# Altium footprint library WR-FSH.PcbLib: 15 footprints
Each footprint in its own frame and in the unit in brackets; x right, y up, seen from the top. Pads: shape width x height; smd on the part's side, far side on the other; paste and mask are expansions set on the pad; w line width, h text height; cw(c..) or ccw(c..) is an arc to the next point about the centre after c.
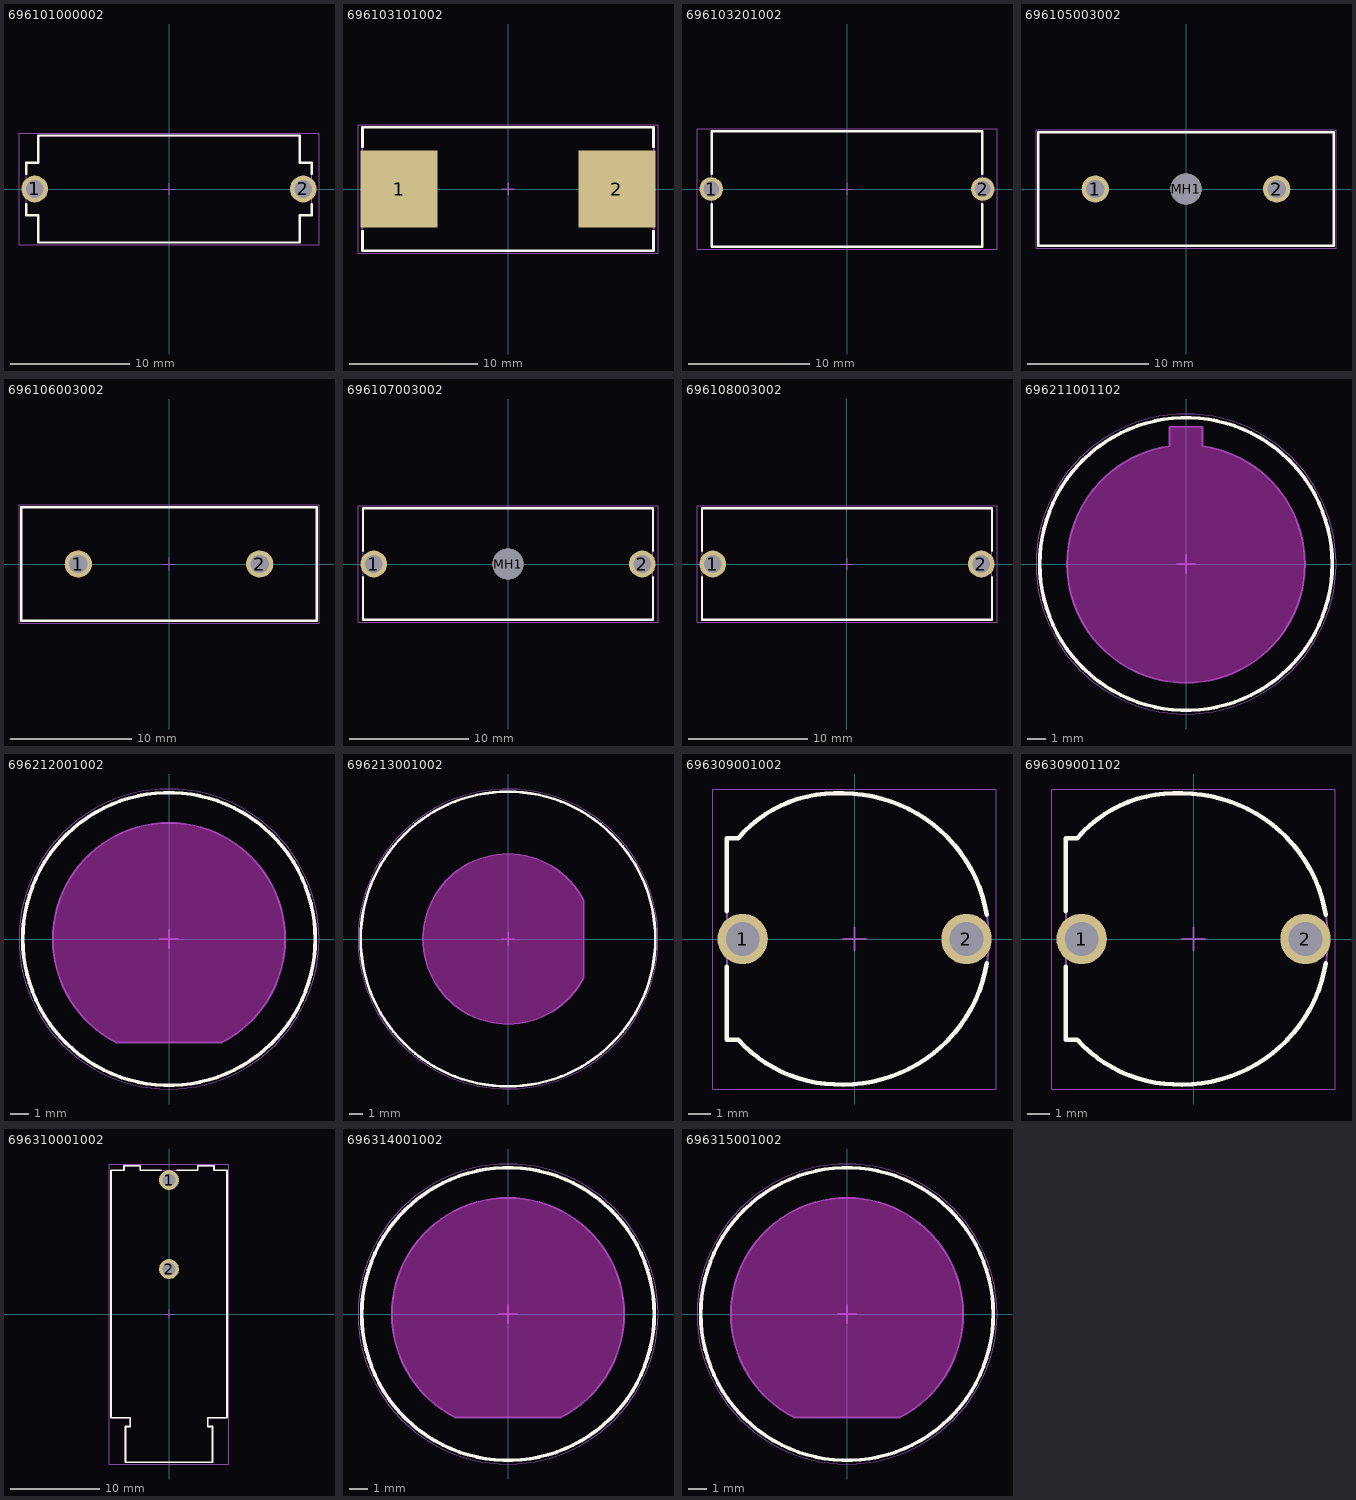
[diagram p0: the footprints below, top view; thin cyan lines are the x and y axes]

## 696101000002 [mm] "FUSEHOLDER BLOCKS - PCB - CLIP COVER - THT"
height 13.5
pads (2):
  round 2.25 hole 1.5: 1(-11.3,0) 2(11.3,0)
Top Overlay:
  lines w0.2: -12,-1.26 -12,-2.21 -11,-2.21 -11,-4.5 11,-4.5 11,-2.21 12,-2.21 12,-1.26 ; -12,1.26 -12,2.21 -11,2.21 -11,4.5 11,4.5 11,2.21 12,2.21 12,1.26
Top Assembly:
  lines w0.1: -12,-2.21 -11,-2.21 -11,-4.5 11,-4.5 11,-2.21 12,-2.21 12,2.21 11,2.21 11,4.5 -11,4.5 -11,2.21 -12,2.21 -12,-2.21
Top Designator:
  text ".Designator" at -3.647,-0.357 h1
Top 3D Body:
  lines w0.1: -12,-2.21 -12,2.21 -11,2.21 -11,4.5 11,4.5 11,2.21 12,2.21 12,-2.21 11,-2.21 11,-4.5 -11,-4.5 -11,-2.21 -12,-2.21
Top Courtyard:
  lines w0.05: -12.625,-4.7 12.625,-4.7 12.625,4.7 -12.625,4.7 -12.625,-4.7
Top Component Center:
  lines w0.1: -0.5,0 0.5,0 ; 0,-0.5 0,0.5
3D body "696101000002.stp": height 13.55, standoff -4.45, extent -12,-4.5 12,4.5

## 696103101002 [mm] "FUSEHOLDER BLOCKS - PCB - CLIP COVER - SMT"
height 13.1
pads (2):
  rect 6x6 smd: 1(-8.5,0) 2(8.5,0)
Top Overlay:
  lines w0.2: -11.35,-3.3 -11.35,-4.8 11.35,-4.8 11.35,-3.3 ; -11.35,3.3 -11.35,4.8 11.35,4.8 11.35,3.3
Top Assembly:
  lines w0.1: -11.35,-4.8 11.35,-4.8 11.35,4.8 -11.35,4.8 -11.35,-4.8
Top Designator:
  text ".Designator" at -3.647,-0.357 h1
Top 3D Body:
  lines w0.1: -11.35,-4.8 -11.35,4.8 11.35,4.8 11.35,-4.8 -11.35,-4.8
Top Courtyard:
  lines w0.05: -11.7,-5 11.7,-5 11.7,5 -11.7,5 -11.7,-5
Top Component Center:
  lines w0.1: -0.5,0 0.5,0 ; 0,-0.5 0,0.5
3D body "696103101002.stp": height 12.05, standoff 0.05, extent -11.35,-4.8 11.35,4.8

## 696103201002 [mm] "FUSEHOLDER BLOCKS - PCB - CLIP COVER - THR"
height 12.6
pads (2):
  round 1.95 hole 1.3: 1(-11.25,0) 2(11.25,0)
Top Overlay:
  lines w0.2: -11.2,-1.25 -11.2,-4.8 11.2,-4.8 11.2,-1.25 ; -11.2,1.25 -11.2,4.8 11.2,4.8 11.2,1.25
Top Assembly:
  lines w0.1: -11.2,-4.8 11.2,-4.8 11.2,4.8 -11.2,4.8 -11.2,-4.8
Top Designator:
  text ".Designator" at -3.647,-0.357 h1
Top 3D Body:
  lines w0.1: -11.2,-4.8 -11.2,4.8 11.2,4.8 11.2,-4.8 -11.2,-4.8
Top Courtyard:
  lines w0.05: -12.425,-5 12.425,-5 12.425,5 -12.425,5 -12.425,-5
Top Component Center:
  lines w0.1: -0.5,0 0.5,0 ; 0,-0.5 0,0.5
3D body "696103201002.stp": height 11.55, standoff -4.05, extent -12.05,-4.8 12.05,4.8

## 696105003002 [mm] "FUSEHOLDER BLOCKS - PCB - CLIP COVER - THT"
height 11.5
pads (3):
  round 2.25 hole 1.5: 1(-7.5,0) 2(7.5,0)
  round 2.6 hole 2.6 unplated: MH1(0,0)
Top Overlay:
  lines w0.2: -12.2,-4.7 12.2,-4.7 12.2,4.7 -12.2,4.7 -12.2,-4.7
Top Assembly:
  lines w0.1: -12.2,-4.7 -12.2,4.7 12.2,4.7 12.2,-4.7 -12.2,-4.7
Top Designator:
  text ".Designator" at -3.647,-0.357 h1
Top 3D Body:
  lines w0.1: -12.2,-4.7 12.2,-4.7 12.2,4.7 -12.2,4.7 -12.2,-4.7
Top Courtyard:
  lines w0.05: -12.4,-4.9 -12.4,4.9 12.4,4.9 12.4,-4.9 -12.4,-4.9
Top Component Center:
  lines w0.1: -0.5,0 0.5,0 ; 0,-0.5 0,0.5
3D body "696105003002 - PTF_75.stp": height 11.55, standoff -3.45, extent -12.2,-4.7 12.2,4.7

## 696106003002 [mm] "FUSEHOLDER BLOCKS - PCB - CLIP COVER - THT"
height 11.5
pads (2):
  round 2.25 hole 1.5: 1(-7.5,0) 2(7.5,0)
Top Overlay:
  lines w0.2: -12.2,-4.7 12.2,-4.7 12.2,4.7 -12.2,4.7 -12.2,-4.7
Top Assembly:
  lines w0.1: -12.2,-4.7 -12.2,4.7 12.2,4.7 12.2,-4.7 -12.2,-4.7
Top Designator:
  text ".Designator" at -3.647,-0.357 h1
Top 3D Body:
  lines w0.1: -12.2,-4.7 12.2,-4.7 12.2,4.7 -12.2,4.7 -12.2,-4.7
Top Courtyard:
  lines w0.05: -12.4,-4.9 12.4,-4.9 12.4,4.9 -12.4,4.9 -12.4,-4.9
Top Component Center:
  lines w0.1: -0.5,0 0.5,0 ; 0,-0.5 0,0.5
3D body "696106003002 - PTF_76.stp": height 11.55, standoff -3.45, extent -12.2,-4.7 12.2,4.7

## 696107003002 [mm] "FUSEHOLDER BLOCKS - PCB - CLIP COVER - THT"
height 11.5
pads (3):
  round 2.25 hole 1.5: 1(-11.3,0) 2(11.3,0)
  round 2.6 hole 2.6 unplated: MH1(0,0)
Top Overlay:
  lines w0.2: -12.2,-1.1 -12.2,-4.7 12.2,-4.7 12.2,-1.1 ; -12.2,1.1 -12.2,4.7 12.2,4.7 12.2,1.1
Top Assembly:
  lines w0.1: -12.2,-4.7 -12.2,4.7 12.2,4.7 12.2,-4.7 -12.2,-4.7
Top Designator:
  text ".Designator" at -3.647,-0.357 h1
Top 3D Body:
  lines w0.1: -12.2,-4.7 12.2,-4.7 12.2,4.7 -12.2,4.7 -12.2,-4.7
Top Courtyard:
  lines w0.05: -12.625,-4.9 12.625,-4.9 12.625,4.9 -12.625,4.9 -12.625,-4.9
Top Component Center:
  lines w0.1: -0.5,0 0.5,0 ; 0,-0.5 0,0.5
3D body "696107003002 - PTF_77.stp": height 11.55, standoff -3.45, extent -12.2,-4.7 12.2,4.7

## 696108003002 [mm] "FUSEHOLDER BLOCKS - PCB - CLIP COVER - THT"
height 11.5
pads (2):
  round 2.25 hole 1.5: 1(-11.3,0) 2(11.3,0)
Top Overlay:
  lines w0.2: -12.2,-1.1 -12.2,-4.7 12.2,-4.7 12.2,-1.1 ; -12.2,1.1 -12.2,4.7 12.2,4.7 12.2,1.1
Top Assembly:
  lines w0.1: -12.2,-4.7 12.2,-4.7 12.2,4.7 -12.2,4.7 -12.2,-4.7
Top Designator:
  text ".Designator" at -3.647,-0.357 h1
Top 3D Body:
  lines w0.1: -12.2,-4.7 -12.2,4.7 12.2,4.7 12.2,-4.7 -12.2,-4.7
Top Courtyard:
  lines w0.05: -12.625,-4.9 -12.625,4.9 12.625,4.9 12.625,-4.9 -12.625,-4.9
Top Component Center:
  lines w0.1: -0.5,0 0.5,0 ; 0,-0.5 0,0.5
3D body "696108003002 - PTF_78.stp": height 11.55, standoff -3.45, extent -12.2,-4.7 12.2,4.7

## 696211001102 [mm] "SHOCKSAFE FUSEHOLDERS - PANEL - SCREW’N LOCK COVER - THT"
height 34.2
Top Overlay:
  circle w0.2: c0,0 r8
Keep-Out Layer:
  board cut-out: -0.9,6.437 -1.272,6.385 -1.999,6.196 -2.7,5.925 -3.365,5.574 -3.985,5.149 -4.552,4.656 -5.058,4.1 -5.496,3.49 -5.862,2.833 -6.149,2.139 -6.355,1.416 -6.476,0.674 -6.51,-0.076 -6.458,-0.826 -6.32,-1.565 -6.098,-2.282 -5.794,-2.97 -5.413,-3.618 -4.96,-4.217 -4.441,-4.761 -3.863,-5.241 -3.233,-5.651 -2.561,-5.986 -1.854,-6.241 -1.122,-6.413 -0.376,-6.5 0.376,-6.5 1.122,-6.413 1.854,-6.241 2.561,-5.986 3.233,-5.651 3.863,-5.241 4.441,-4.761 4.96,-4.217 5.413,-3.618 5.794,-2.97 6.098,-2.282 6.32,-1.565 6.458,-0.826 6.51,-0.076 6.476,0.674 6.355,1.416 6.149,2.139 5.862,2.833 5.496,3.49 5.058,4.1 4.552,4.656 3.985,5.149 3.365,5.574 2.7,5.925 1.999,6.196 1.272,6.385 0.9,6.437 0.9,7.5 -0.9,7.5
Assembly Notes:
  lines w0.1: -0.9,6.437 ccw(c0,0) 0.9,6.437 0.9,7.5 -0.9,7.5 -0.9,6.437
  text "PCB Cutout Area" at -3,-0.5 h1.02
Top Assembly:
  circle w0.1: c0,0 r8
Top Designator:
  text ".Designator" at -3.647,-0.357 h1
Top 3D Body:
  circle w0.1: c0,0 r8
Top Courtyard:
  circle w0.05: c0,0 r8.2
Top Component Center:
  lines w0.1: -0.5,0 0.5,0 ; 0,-0.5 0,0.5
3D body "696211001102.stp": height 11.03, standoff -23.15, extent -8.25,-8 8,8

## 696212001002 [mm] "SHOCKSAFE FUSEHOLDERS - PANEL - SCREW’N LOCK COVER - THT"
height 37.5
Top Overlay:
  circle w0.2: c0,0 r8
Keep-Out Layer:
  board cut-out: -2.899,-5.65 -3.242,-5.474 -3.88,-5.041 -4.461,-4.535 -4.977,-3.962 -5.42,-3.331 -5.783,-2.651 -6.061,-1.932 -6.25,-1.185 -6.348,-0.42 -6.352,0.351 -6.263,1.116 -6.082,1.866 -5.812,2.588 -5.456,3.272 -5.02,3.908 -4.511,4.486 -3.935,4.999 -3.301,5.438 -2.619,5.797 -1.899,6.072 -1.151,6.257 -0.385,6.35 0.385,6.35 1.151,6.257 1.899,6.072 2.619,5.797 3.301,5.438 3.935,4.999 4.511,4.486 5.02,3.908 5.456,3.272 5.812,2.588 6.082,1.866 6.263,1.116 6.352,0.351 6.348,-0.42 6.25,-1.185 6.061,-1.932 5.783,-2.651 5.42,-3.331 4.977,-3.962 4.461,-4.535 3.88,-5.041 3.242,-5.474 2.899,-5.65
Assembly Notes:
  lines w0.1: -2.899,-5.65 cw(c0,0) 2.899,-5.65 -2.899,-5.65
  text "PCB Cutout Area" at -3.24,-0.29 h1.02
Top Assembly:
  circle w0.1: c0,0 r8
Top Designator:
  text ".Designator" at -3.647,-0.357 h1
Top 3D Body:
  circle w0.1: c0,0 r8
Top Courtyard:
  circle w0.05: c0,0 r8.2
Top Component Center:
  lines w0.1: -0.5,0 0.5,0 ; 0,-0.5 0,0.5
3D body "696212001002.stp": height 5.65, standoff -31.95, extent -8,-8.25 8,8

## 696213001002 [mm] "SHOCKSAFE FUSEHOLDERS - PANEL - SCREW’N LOCK COVER - THT"
height 37.5
Top Overlay:
  circle w0.2: c0,0 r11
Keep-Out Layer:
  board cut-out: 5.65,-2.899 5.474,-3.242 5.041,-3.88 4.535,-4.461 3.962,-4.977 3.331,-5.42 2.651,-5.783 1.932,-6.061 1.185,-6.25 0.42,-6.348 -0.351,-6.352 -1.116,-6.263 -1.866,-6.082 -2.588,-5.812 -3.272,-5.456 -3.907,-5.02 -4.486,-4.511 -4.999,-3.935 -5.438,-3.302 -5.797,-2.62 -6.072,-1.899 -6.257,-1.151 -6.35,-0.386 -6.35,0.385 -6.257,1.151 -6.072,1.899 -5.797,2.619 -5.438,3.301 -4.999,3.935 -4.486,4.511 -3.908,5.02 -3.272,5.456 -2.588,5.812 -1.866,6.082 -1.117,6.263 -0.351,6.352 0.42,6.348 1.185,6.25 1.932,6.061 2.651,5.783 3.331,5.42 3.962,4.977 4.535,4.462 5.041,3.88 5.474,3.242 5.65,2.899
Assembly Notes:
  lines w0.1: 5.65,2.899 ccw(c0,0) 5.65,-2.899 5.65,2.899
  text "PCB Cutout Area" at -3.6,-0.3 h1.02
Top Assembly:
  circle w0.1: c0,0 r11
Top Designator:
  text ".Designator" at -3.647,-0.357 h1
Top 3D Body:
  circle w0.1: c0,0 r11
Top Courtyard:
  circle w0.05: c0,0 r11.2
Top Component Center:
  lines w0.1: -0.5,0 0.5,0 ; 0,-0.5 0,0.5
3D body "696213001002.stp": height 6.73, standoff -30.87, extent -11,-11 11,11

## 696309001002 [mm] "SHOCKSAFE FUSEHOLDERS - PCB - TURN’N LOCK COVER - THT"
height 33.1
pads (2):
  round 2.25 hole 1.5: 1(-5,0) 2(5,0)
Top Overlay:
  lines w0.2: -5.7,-1.25 -5.7,-4.5 -5.2,-4.5 ccw(c-0.671,-0.379) -0.5,-6.5 ccw(c-0.5,0) 5.909,-1.085 ; -5.7,1.25 -5.7,4.5 -5.2,4.5 cw(c-0.834,0.761) -0.5,6.5 cw(c-0.5,0) 5.909,1.085
Top Assembly:
  lines w0.1: -5.7,-4.5 -5.7,4.5 -5.2,4.5 cw(c-0.834,0.761) -0.5,6.5 cw(c-0.5,0) -0.5,-6.5 cw(c-0.671,-0.379) -5.2,-4.5 -5.7,-4.5
Top Designator:
  text ".Designator" at -3.647,-0.357 h1
Top 3D Body:
  lines w0.1: -5.7,-4.5 -5.2,-4.5 ccw(c-0.671,-0.379) -0.5,-6.5 ccw(c-0.5,0) -0.5,6.5 ccw(c-0.834,0.761) -5.2,4.5 -5.7,4.5 -5.7,-4.5
Top Courtyard:
  lines w0.05: -6.325,-6.7 -6.325,6.7 6.325,6.7 6.325,-6.7 -6.325,-6.7
Top Component Center:
  lines w0.1: -0.5,0 0.5,0 ; 0,-0.5 0,0.5
3D body "696309001002.stp": height 33.37, standoff -4.93, extent -5.7,-6.5 6,6.5

## 696309001102 [mm] "SHOCKSAFE FUSEHOLDERS - PCB - TURN’N LOCK COVER - THT - GLOW WIRE PLASTIC - WR-FSH"
height 33.1
pads (2):
  round 2.25 hole 1.5: 1(-5,0) 2(5,0)
Top Overlay:
  lines w0.2: -5.7,-1.25 -5.7,-4.5 -5.2,-4.5 ccw(c-0.671,-0.379) -0.5,-6.5 ccw(c-0.5,0) 5.909,-1.085 ; -5.7,1.25 -5.7,4.5 -5.2,4.5 cw(c-0.834,0.761) -0.5,6.5 cw(c-0.5,0) 5.909,1.085
Top Assembly:
  lines w0.1: -5.7,-4.5 -5.7,4.5 -5.2,4.5 cw(c-0.834,0.761) -0.5,6.5 cw(c-0.5,0) -0.5,-6.5 cw(c-0.671,-0.379) -5.2,-4.5 -5.7,-4.5
Top Designator:
  text ".Designator" at -3.647,-0.357 h1
Top 3D Body:
  lines w0.1: -5.7,-4.5 -5.2,-4.5 ccw(c-0.671,-0.379) -0.5,-6.5 ccw(c-0.5,0) -0.5,6.5 ccw(c-0.834,0.761) -5.2,4.5 -5.7,4.5 -5.7,-4.5
Top Courtyard:
  lines w0.05: -6.325,-6.7 -6.325,6.7 6.325,6.7 6.325,-6.7 -6.325,-6.7
Top Component Center:
  lines w0.1: -0.5,0 0.5,0 ; 0,-0.5 0,0.5
3D body "696309001002.stp": height 33.37, standoff -4.93, extent -5.7,-6.5 6,6.5

## 696310001002 [mm] "SHOCKSAFE FUSEHOLDERS - PCB - TURN’N LOCK COVER - THT"
height 11.7
pads (2):
  round 2.25 hole 1.5: 1(0,15.05) 2(0,5.05)
Top Overlay:
  lines w0.2: -0.9,16.15 -3.23,16.15 -3.23,16.65 -5.07,16.65 -5.07,16.15 -6.5,16.15 -6.5,-11.65 -4.35,-11.65 -4.35,-12.65 -4.895,-12.65 -4.895,-16.65 4.895,-16.65 4.895,-12.65 4.35,-12.65 4.35,-11.65 6.5,-11.65 6.5,16.15 5.07,16.15 5.07,16.65 3.23,16.65 3.23,16.15 0.9,16.15
Top Assembly:
  lines w0.1: -6.5,-11.65 -6.5,16.15 -5.07,16.15 -5.07,16.65 -3.23,16.65 -3.23,16.15 3.23,16.15 3.23,16.65 5.07,16.65 5.07,16.15 6.5,16.15 6.5,-11.65 4.35,-11.65 4.35,-12.65 4.895,-12.65 4.895,-16.65 -4.895,-16.65 -4.895,-12.65 -4.35,-12.65 -4.35,-11.65 -6.5,-11.65
Top Designator:
  text ".Designator" at -3.647,-0.357 h1
Top 3D Body:
  lines w0.1: -6.5,-11.65 -4.35,-11.65 -4.35,-12.65 -4.895,-12.65 -4.895,-16.65 4.895,-16.65 4.895,-12.65 4.35,-12.65 4.35,-11.65 6.5,-11.65 6.5,16.15 5.07,16.15 5.07,16.65 3.23,16.65 3.23,16.15 -3.23,16.15 -3.23,16.65 -5.07,16.65 -5.07,16.15 -6.5,16.15 -6.5,-11.65
Top Courtyard:
  lines w0.05: -6.7,-16.85 -6.7,16.85 6.7,16.85 6.7,-16.85 -6.7,-16.85
Top Component Center:
  lines w0.1: -0.5,0 0.5,0 ; 0,-0.5 0,0.5
3D body "696310001002.stp": height 11.81, standoff -4.89, extent -6.5,-16.65 6.5,16.65

## 696314001002 [mm] "SHOCKSAFE FUSEHOLDERS - PANEL - TURN’N LOCK COVER - THT"
height 36.5
Top Overlay:
  circle w0.2: c0,0 r8
Keep-Out Layer:
  board cut-out: -2.899,-5.65 -3.242,-5.474 -3.88,-5.042 -4.461,-4.535 -4.977,-3.962 -5.42,-3.331 -5.783,-2.651 -6.061,-1.932 -6.25,-1.185 -6.348,-0.42 -6.352,0.351 -6.263,1.116 -6.082,1.866 -5.812,2.588 -5.456,3.272 -5.02,3.907 -4.511,4.486 -3.935,4.999 -3.302,5.438 -2.62,5.797 -1.899,6.072 -1.151,6.257 -0.386,6.35 0.385,6.35 1.151,6.257 1.899,6.072 2.619,5.797 3.301,5.438 3.935,4.999 4.511,4.486 5.02,3.908 5.456,3.272 5.812,2.588 6.082,1.866 6.263,1.116 6.352,0.351 6.348,-0.42 6.25,-1.185 6.061,-1.932 5.783,-2.651 5.42,-3.331 4.977,-3.962 4.461,-4.535 3.88,-5.041 3.242,-5.474 2.899,-5.65
Assembly Notes:
  lines w0.1: -2.899,-5.65 cw(c0,0) 2.899,-5.65 -2.899,-5.65
  text "PCB Cutout Area" at -3.3,-0.3 h1.02
Top Assembly:
  circle w0.1: c0,0 r8
Top Designator:
  text ".Designator" at -3.647,-0.357 h1
Top 3D Body:
  circle w0.1: c0,0 r8
Top Courtyard:
  circle w0.05: c0,0 r8.2
Top Component Center:
  lines w0.1: -0.5,0 0.5,0 ; 0,-0.5 0,0.5
3D body "696314001002.stp": height 6.3, standoff -30.4, extent -8.25,-8 8,8

## 696315001002 [mm] "SHOCKSAFE FUSEHOLDERS - PANEL - TURN’N LOCK COVER - THT"
height 46.2
Top Overlay:
  circle w0.2: c0,0 r8
Keep-Out Layer:
  board cut-out: -2.899,-5.65 -3.242,-5.474 -3.88,-5.041 -4.462,-4.535 -4.977,-3.962 -5.42,-3.331 -5.783,-2.651 -6.061,-1.932 -6.25,-1.185 -6.348,-0.42 -6.352,0.351 -6.263,1.117 -6.082,1.866 -5.812,2.588 -5.456,3.272 -5.02,3.908 -4.511,4.486 -3.935,4.999 -3.301,5.438 -2.619,5.797 -1.899,6.072 -1.151,6.257 -0.385,6.35 0.386,6.35 1.151,6.257 1.899,6.072 2.62,5.797 3.302,5.438 3.935,4.999 4.511,4.486 5.02,3.907 5.456,3.272 5.812,2.588 6.082,1.866 6.263,1.116 6.352,0.351 6.348,-0.42 6.25,-1.185 6.061,-1.932 5.783,-2.651 5.42,-3.331 4.977,-3.962 4.461,-4.535 3.88,-5.041 3.242,-5.474 2.899,-5.65
Assembly Notes:
  lines w0.1: -2.899,-5.65 2.899,-5.65 ccw(c0,0) -2.899,-5.65
  text "PCB Cutout Area" at -3.5,-0.3 h1.02
Top Assembly:
  circle w0.1: c0,0 r8
Top Designator:
  text ".Designator" at -3.647,-0.357 h1
Top 3D Body:
  circle w0.1: c0,0 r8
Top Courtyard:
  circle w0.05: c0,0 r8.2
Top Component Center:
  lines w0.1: -0.5,0 0.5,0 ; 0,-0.5 0,0.5
3D body "696315001002.stp": height 6.3, standoff -40.1, extent -8,-8 8,8